# Altium footprint library PcbLib1.PcbLib: 19 footprints (part 1 of 2)
Each footprint in its own frame and in the unit in brackets; x right, y up, seen from the top. Pads: shape width x height; smd on the part's side, far side on the other; paste and mask are expansions set on the pad; w line width, h text height; cw(c..) or ccw(c..) is an arc to the next point about the centre after c.
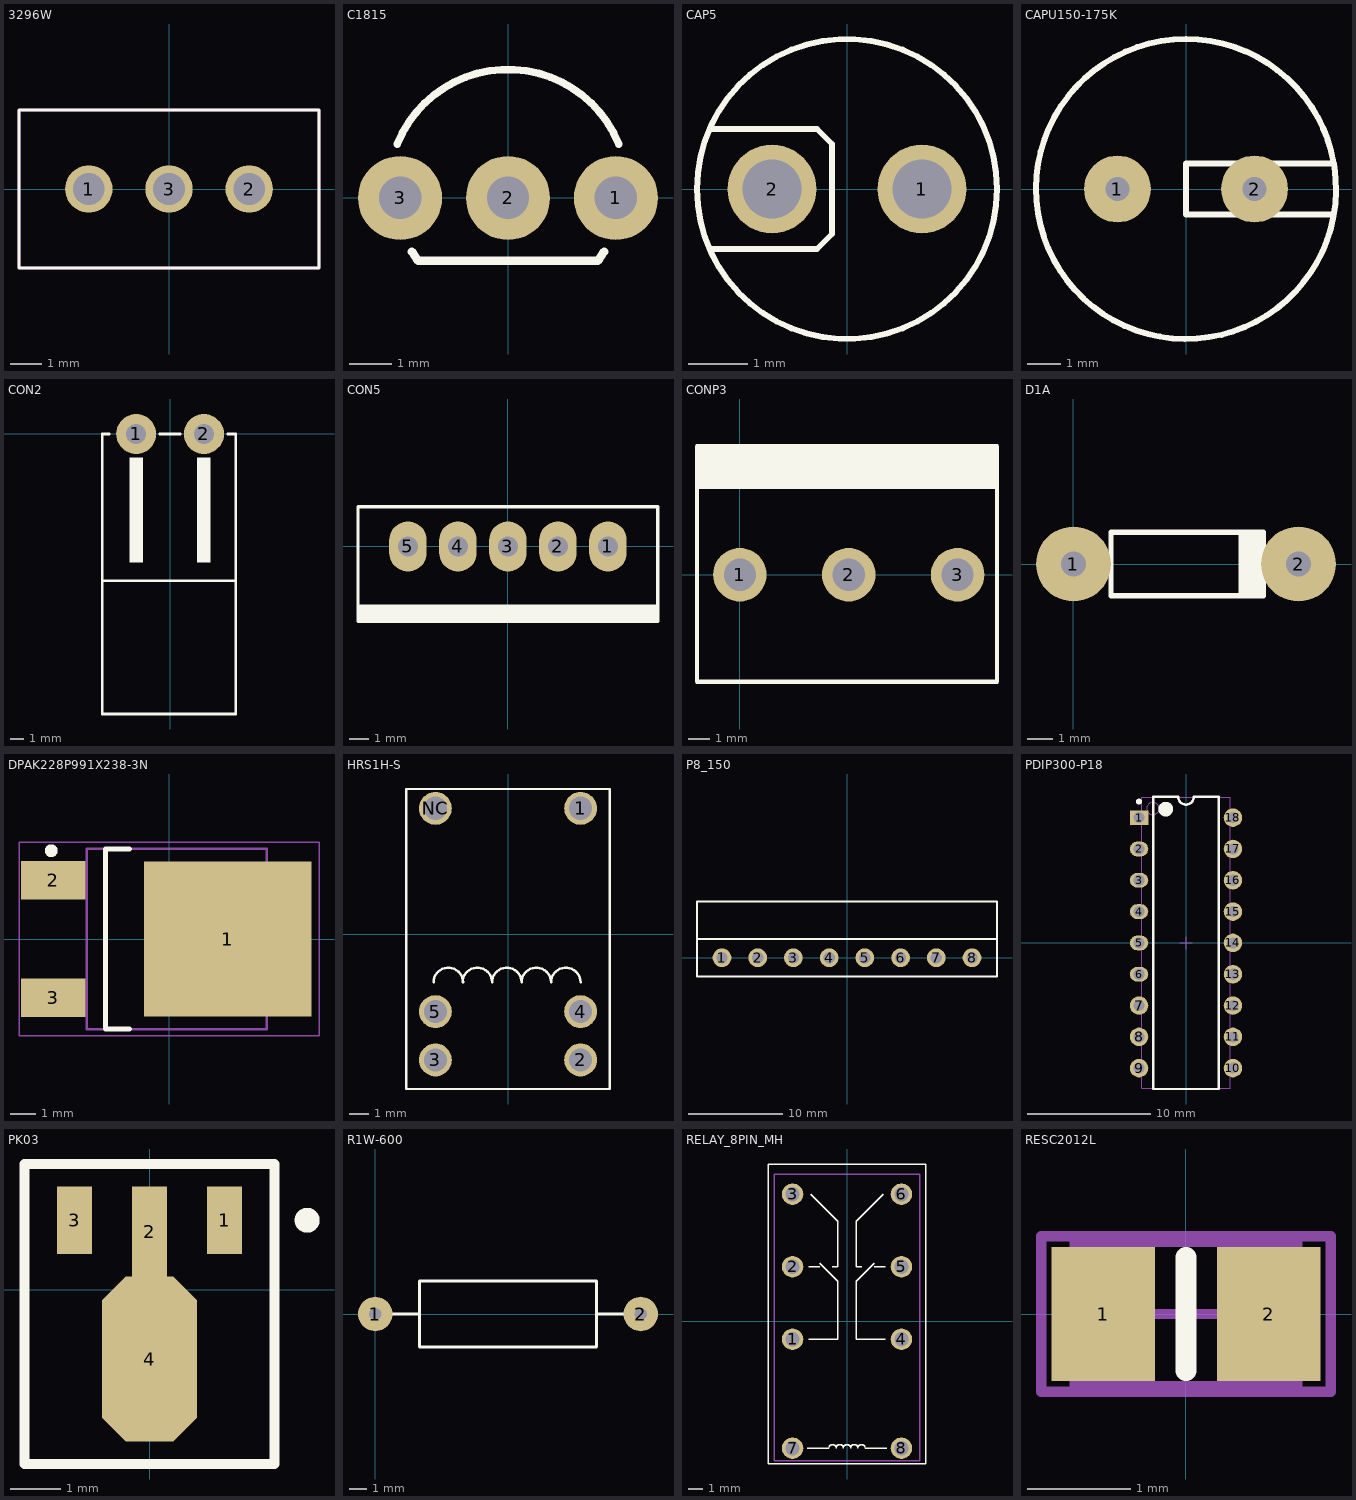
[diagram p0: the footprints below, top view; thin cyan lines are the x and y axes]

## 3296W [mm]
pads (3):
  round 1.5 hole 1 mask+0.01: 1(-2.54,0) 2(2.54,0) 3(0,0)
Top Overlay:
  lines w0.1: -4.75,-2.5 4.75,-2.5 4.75,2.5 -4.75,2.5 -4.75,-2.5
Mechanical 1:
  lines w0.1: -4.75,-2.5 4.75,-2.5 4.75,2.5 -4.75,2.5 -4.75,-2.5

## C1815 [mil]
pads (3):
  round 78 hole 39.37: 1(100,0) 2(0,0) 3(-100,0)
Top Overlay:
  lines w7: -102.76,49.85 cw(c0,8.33) 102.76,49.85
  lines w7.87: -89.08,-49.71 -83.33,-58.33 83.33,-58.33 89.08,-49.71

## CAP5 [mm]
pads (2):
  round 1.5 hole 1 mask+0.01: 1(1.27,0) 2(-1.27,0)
Top Overlay:
  circle w0.1: c0,0 r2.54
  lines w0.1: -2.286,-1.016 -0.508,-1.016 -0.254,-0.762 -0.254,0.762 -0.508,1.016 -2.286,1.016

## CAPU150-175K [mil]
pads (2):
  round 78 hole 28: 1(-80,0) 2(80,0)
Top Overlay:
  lines w7: 172,-30 0,-30 0,30 172,30 ; 172.43,29.9 ccw(c0,0) 173.03,26.16

## CON2 [mm]
pads (2):
  round 3 hole 1.5: 1(-2.54,0) 2(2.54,0)
Top Overlay:
  rectangle: -3.048,-9.652 -2.032,-1.778
  rectangle: 2.032,-9.652 3.048,-1.778
  lines w0.2: -5.08,-11 4.92,-11 ; -4.572,0 -5.08,0 -5.08,-21 4.92,-21 4.92,0 4.318,0 ; -0.762,0 0.762,0

## CON5 [mm]
pads (5):
  oval 1.905x2.54 hole 1: 1(5.08,0) 2(2.54,0) 3(0,0) 4(-2.54,0) 5(-5.08,0)
Top Overlay:
  rectangle: -7.619,-3.81 7.621,-3.048
  lines w0.178: -7.62,-3.048 7.62,-3.048 ; -7.62,-3.81 7.62,-3.81 7.62,2.032 -7.62,2.032 -7.62,-3.81

## CONP3 [mm]
pads (3):
  round 2.5 hole 1.5: 1(0,0) 2(5.08,0) 3(10.16,0)
Top Overlay:
  rectangle: -2,4 12,6
  lines w0.2: -2,-5 12,-5 12,0 12,6 -2,6 -2,0 -2,-5

## D1A [mm]
pads (2):
  round 3 hole 1: 1(0,0) 2(9,0)
Top Overlay:
  rectangle: 6.707,-1.27 7.596,1.27
  lines w0.203: 6.707,-1.27 6.707,1.27 ; 1.5,-1.27 1.5,1.27 7.596,1.27 7.596,-1.27 1.5,-1.27

## DPAK228P991X238-3N [mm] "D-PAK, 3-Pads, Body 6.60x6.86mm (max), IPC Medium Density"
height 2.38
pads (3):
  rect 6.5x6 smd: 1(2.286,0)
  rect 2.5x1.5 smd: 2(-4.5,2.28) 3(-4.5,-2.28)
Top Overlay:
  circle w0.25: c-4.572,3.429 r0.125
  lines w0.2: -1.542,-3.5 -2.467,-3.5 -2.467,3.5 -1.542,3.5
Mechanical 13:
  lines w0.1: -3.2,-3.5 3.8,-3.5 3.8,3.5 -3.2,3.5 -3.2,-3.5
Mechanical 15:
  lines w0.05: -5.825,-3.75 5.825,-3.75 5.825,3.75 -5.825,3.75 -5.825,-3.75
  lines w0.1: -0.5,0 0.5,0 ; 0,-0.5 0,0.5
3D body: height 2.38, standoff 0.46, extent -3.2,-3.5 3.8,3.5

## HRS1H-S [mm]
height 1.1
pads (6):
  round 1.7 hole 1.2: 1(3.75,6.5) 2(3.75,-6.5) 3(-3.75,-6.5) 4(3.75,-4) 5(-3.75,-4) NC(-3.75,6.5)
Top Overlay:
  lines w0.127: -3.846,-2.492 cw(c-3.084,-2.492) -2.322,-2.492 ; -2.346,-2.492 cw(c-1.584,-2.492) -0.822,-2.492 cw(c-0.06,-2.492) 0.702,-2.492 cw(c1.464,-2.492) 2.226,-2.492 cw(c2.988,-2.492) 3.75,-2.492 ; -5.25,-8 5.25,-8 5.25,7.5 -5.25,7.5 -5.25,-8

## P8_150 [mm]
pads (8):
  round 2 hole 1.2 mask+0.001: 1(-13.335,0) 2(-9.525,0) 3(-5.715,0) 4(-1.905,0) 5(1.905,0) 6(5.715,0) 7(9.525,0) 8(13.335,0)
Top Overlay:
  lines w0.2: -16,2 -16,-2 16,-2 ; -16,2 16,2 ; -16,2 -16,6 16,6 16,2 ; 16,-2 16,2 ; 16,-2 16,-2

## PDIP300-P18 [mm] "DIP, 18-Leads, Row Spacing 7.62mm, Pitch 2.54mm, Body 22.9x6.6mm"
height 5.34
pads (18):
  rect 1.5x1.2 hole 0.9: 1(-3.81,10.16)
  oval 1.5x1.2 hole 0.9: 2(-3.81,7.62) 3(-3.81,5.08) 4(-3.81,2.54) 5(-3.81,0) 6(-3.81,-2.54)
  round 1.5 hole 0.9: 7(-3.81,-5.08) 8(-3.81,-7.62) 9(-3.81,-10.16) 10(3.81,-10.16) 11(3.81,-7.62) 12(3.81,-5.08) 13(3.81,-2.54) 14(3.81,0) 15(3.81,2.54) 16(3.81,5.08) 17(3.81,7.62) 18(3.81,10.16)
Top Overlay:
  circle w0.25: c-3.81,11.46 r0.125
  circle w0.6: c-1.65,10.85 r0.3
  lines w0.2: -2.65,-11.85 -2.65,11.85 -0.635,11.85 ccw(c0,11.85) 0.635,11.85 2.65,11.85 2.65,-11.85 -2.65,-11.85
Mechanical 13:
  circle w0.1: c-2.7,10.9 r0.5
  lines w0.1: -3.6,-11.8 -3.6,11.8 3.6,11.8 3.6,-11.8 -3.6,-11.8
Mechanical 15:
  lines w0.1: -0.5,0 0.5,0 ; 0,-0.5 0,0.5
3D body: height 5.34, standoff 0, extent -3.6,-11.8 3.6,11.8

## PK03 [mm] "SOT-89; Body 4.6 x 4.25 mm, inc. leads (LxW max)"
height 1.6
pads (4):
  rect 0.7x1.35 smd: 1(1.5,1.388) 3(-1.5,1.388)
  rect 0.7x1.8 smd: 2(0,1.162)
  oct 1.9x3.3 smd: 4(0,-1.388)
Top Overlay:
  circle w0.25: c3.15,1.388 r0.125
  lines w0.2: -2.5,-3.487 -2.5,2.512 2.5,2.512 2.5,-3.487 -2.5,-3.487

## R1W-600 [mil]
height 149.61
pads (2):
  round 78 hole 28: 1(0,0) 2(600,0)
Top Overlay:
  lines w7: 0,0 100,0 ; 500,0 600,0 ; 100,0 100,-75 500,-75 500,75 100,75 100,0

## RELAY_8PIN_MH [mm]
pads (8):
  round 1.5 hole 1 mask+0.01: 1(-3.81,-1.27) 2(-3.81,3.81) 3(-3.81,8.89) 4(3.81,-1.27) 5(3.81,3.81) 6(3.81,8.89) 7(-3.81,-8.89) 8(3.81,-8.89)
Top Overlay:
  lines w0.1: -2.794,-8.89 -1.27,-8.89 cw(c-1.016,-8.89) -0.762,-8.89 cw(c-0.508,-8.89) -0.254,-8.89 cw(c0,-8.89) 0.254,-8.89 cw(c0.508,-8.89) 0.762,-8.89 cw(c1.016,-8.89) 1.27,-8.89 2.794,-8.89 ; -2.667,-1.27 -0.635,-1.27 -0.635,2.54 -0.635,2.794 -1.905,4.064 ; -2.667,3.81 -1.905,3.81 ; -2.54,8.89 -0.635,6.985 -0.635,3.81 -1.016,3.81 ; 1.016,3.81 0.635,3.81 0.635,6.985 2.54,8.89 ; 1.905,3.81 2.667,3.81 ; 1.905,4.064 0.635,2.794 0.635,2.54 0.635,-1.27 2.667,-1.27 ; -5.5,-10 5.5,-10 5.5,11 -5.5,11 -5.5,-10
Mechanical 13:
  lines w0.1: -5.08,-9.779 5.08,-9.779 5.08,10.287 -5.08,10.287 -5.08,-9.779

## RESC2012L [mm] "Chip Resistor, Body 2.0x1.3mm, IPC High Density"
height 0.65
pads (2):
  rect 1x1.3 smd: 1(-0.8,0) 2(0.8,0)
Top Overlay:
  lines w0.2: 0,-0.55 0,0.55
Mechanical 13:
  lines w0.1: -1.075,-0.7 1.075,-0.7 1.075,0.7 -1.075,0.7 -1.075,-0.7
Mechanical 15:
  lines w0.1: -0.5,0 0.5,0 ; 0,-0.5 0,0.5 ; -1.4,-0.75 1.4,-0.75 1.4,0.75 -1.4,0.75 -1.4,-0.75
3D body: height 0.65, standoff 0, extent -1.075,-0.7 1.075,0.7